# EAGLE library part ZX62R-B-5P (library con-usb)
Receptacle, micro-B Hirose Electronics
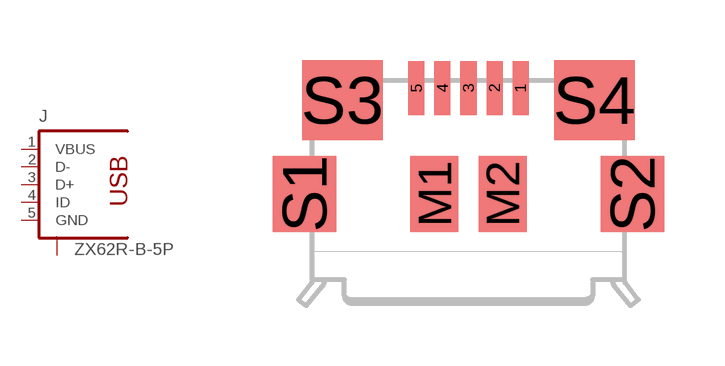
[diagram p8: symbol with the pads of ZX62R-B-5P; footprint ZX62R-B-5P]

Designator prefix J

## ZX62R-B-5P  [ZX62R-B-5P]
1  VBUS  pas
2  D-  pas
3  D+  pas
4  ID  pas
5  GND  pas
M1  S  pas
M2  S  pas
S1  S  pas
S2  S  pas
S3  S  pas
S4  S  pas

## Footprint ZX62R-B-5P (pad centres in mm)
USB - micro B, Hirose
smd 0.4 x 1.35: 1 1.3,4.1; 2 0.65,4.1; 3 0,4.1; 4 -0.65,4.1; 5 -1.3,4.1
smd 1.2 x 1.9: M1 -0.85,1.45; M2 0.85,1.45
smd 1.6 x 1.9: S1 -4.1,1.45; S2 4.1,1.45
smd 2 x 2: S3 -3.15,3.8; S4 3.15,3.8